# Altium footprint library Diode-Bridge.PcbLib: 57 footprints (part 1 of 4)
Each footprint in its own frame and in the unit in brackets; x right, y up, seen from the top. Pads: shape width x height; smd on the part's side, far side on the other; paste and mask are expansions set on the pad; w line width, h text height; cw(c..) or ccw(c..) is an arc to the next point about the centre after c.
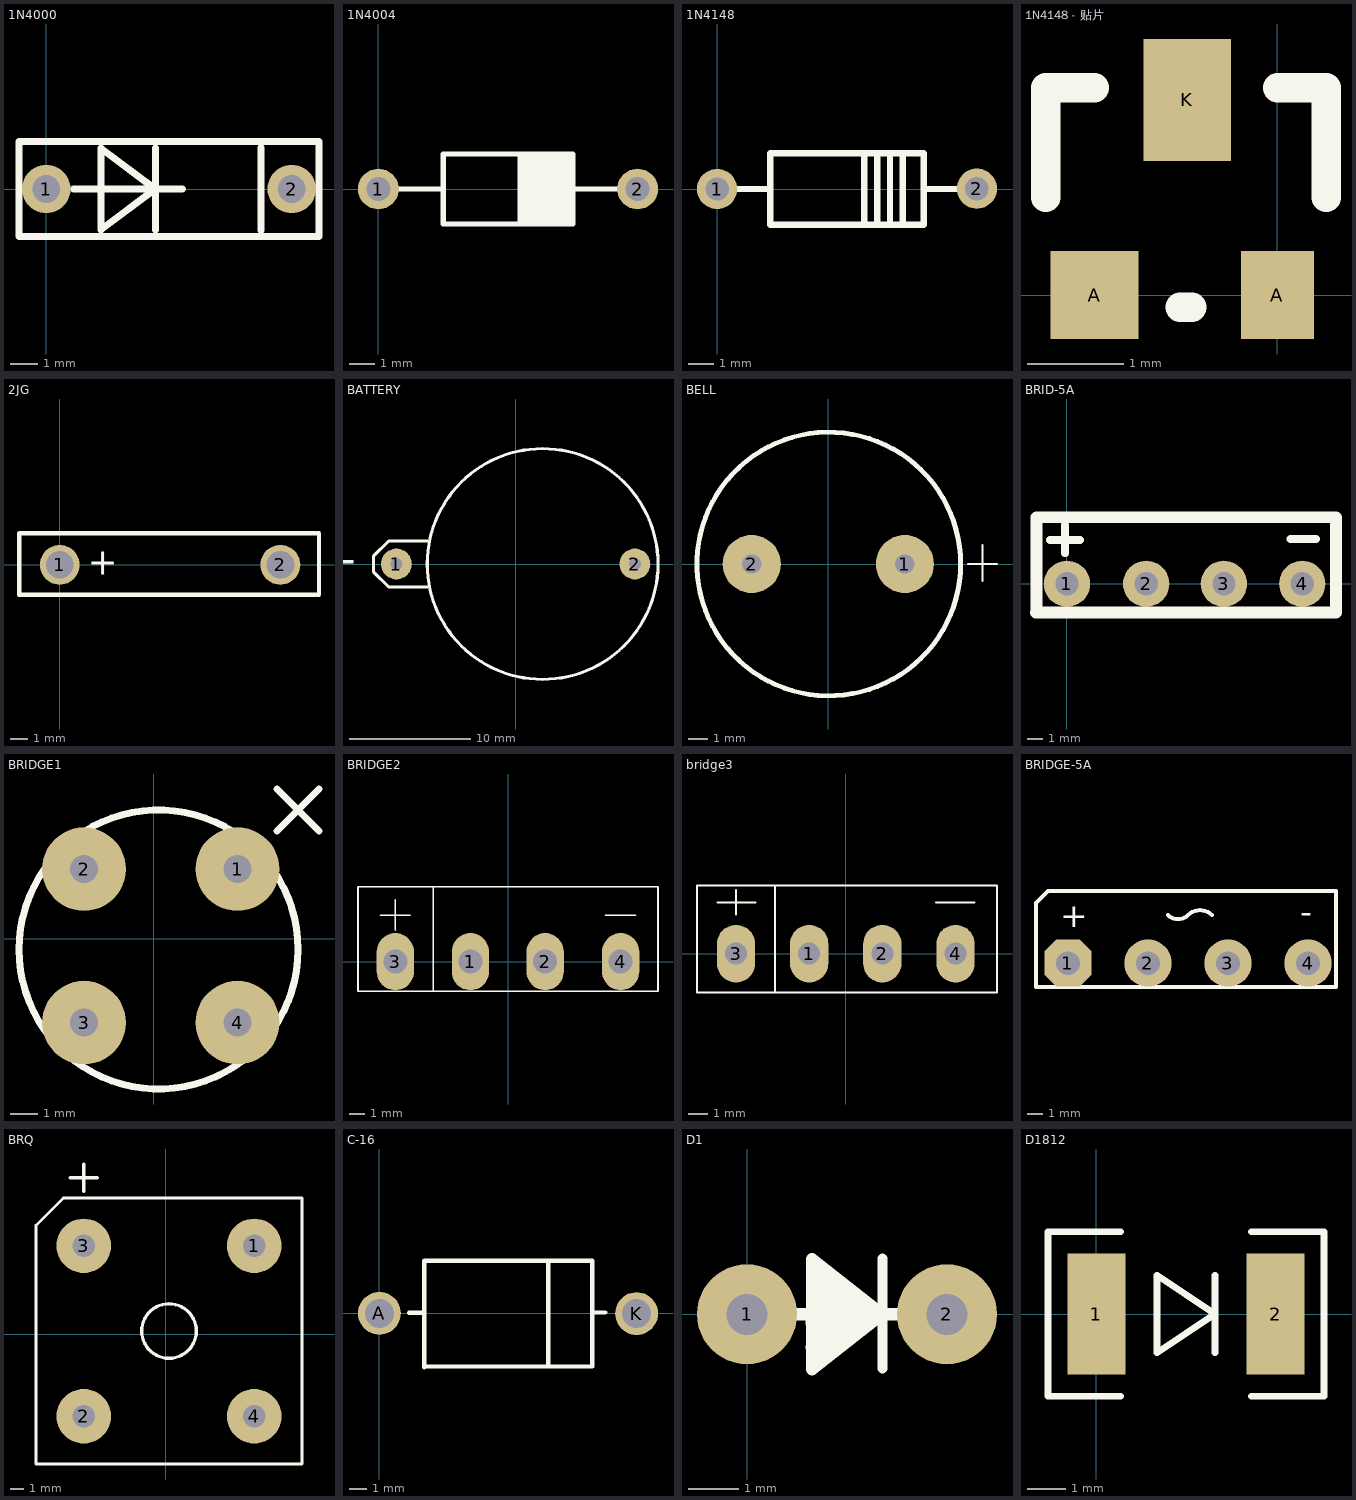
[diagram p0: the footprints below, top view; thin cyan lines are the x and y axes]

## 1N4000 [mil]
pads (2):
  round 70 hole 40: 1(0,0) 2(354.33,0)
Top Overlay:
  lines w10: 39.37,0 196.85,0 ; 157.48,-59.05 157.48,59.05 ; 310,-60 310,60 ; -39.37,-68.74 393.7,-68.74 393.7,68.74 -39.37,68.74 -39.37,-68.74 ; 78.74,-59.05 78.74,59.05 157.48,0 78.74,-59.05

## 1N4004 [mil]
pads (2):
  round 62 hole 36: 1(0,0) 2(393.7,0)
Top Overlay:
  lines w5.91: 214.57,-53.15 214.57,53.15 ; 218.5,-53.15 218.5,53.15 ; 222.44,-53.15 222.44,53.15 ; 226.38,-53.15 226.38,53.15 ; 230.31,-53.15 230.31,53.15 ; 234.25,-53.15 234.25,53.15 ; 238.19,-53.15 238.19,53.15 ; 242.13,-53.15 242.13,53.15 ; 246.06,-53.15 246.06,53.15 ; 250,-53.15 250,53.15 ; 253.94,-53.15 253.94,53.15 ; 257.87,-53.15 257.87,53.15 ; 261.81,-53.15 261.81,53.15 ; 265.75,-53.15 265.75,53.15 ; 269.69,-53.15 269.69,53.15 ; 273.62,-53.15 273.62,53.15 ; 277.56,-53.15 277.56,53.15 ; 281.5,-53.15 281.5,53.15 ; 285.43,-53.15 285.43,53.15 ; 289.37,-53.15 289.37,53.15 ; 293.31,-53.15 293.31,53.15
  lines w7.87: 23.62,0 98.42,0 ; 295.28,0 370.08,0 ; 98.42,-53.15 98.42,53.15 295.28,53.15 295.28,-53.15 98.42,-53.15

## 1N4148 [mil]
pads (2):
  round 62 hole 36: 1(0,0) 2(400,0.5)
Top Overlay:
  lines w9.84: 3.15,0 81.89,0 ; 226.77,-55.12 226.77,55.12 ; 246.46,-55.12 246.46,55.12 ; 266.14,-55.12 266.14,55.12 ; 285.83,-55.12 285.83,55.12 ; 396.85,0 318.11,0 ; 318.11,0 318.11,-55.12 81.89,-55.12 81.89,55.12 318.11,55.12 318.11,0

## 1N4148 - 贴片 [mil]
pads (3):
  rect 36x36 smd: A(-75,0)
  rect 30x36 smd: A(0,0)
  rect 36x50 smd: K(-37,80)
Top Overlay:
  lines w12: -95,40 -95,85 -75,85 ; -40,-5 -35,-5 ; 0,85 20,85 20,40

## 2JG [mm]
pads (2):
  round 2.3 hole 1.6: 1(0,0) 2(12.722,0)
Top Overlay:
  lines w0.254: 0,-0.254 0,0.254 ; 12.7,-0.254 12.7,0.254 ; -2.349,-1.725 14.946,-1.725 14.946,1.825 -2.324,1.825 -2.324,-1.7 -2.349,-1.725
  text "+" at 1.625,-0.575 h1.52

## BATTERY [mil]
pads (2):
  round 100 hole 40: 1(-387.5,0) 2(387.5,0)
Top Overlay:
  circle w10: c87.5,0 r375
  lines w10: -287.5,-75 -412.5,-75 -462.5,-25 -462.5,25 -412.5,75 -287.5,75
  text "+" at -512.5,50 h100

## BELL [mil]
pads (2):
  round 120 hole 40: 1(158,0) 2(-158,0)
Top Overlay:
  circle w10: c1.11,0 r271.89
  lines w4: 288,0 313,0 ; 302,0 348,0 ; 318,-35 318,39

## BRID-5A [mm]
pads (4):
  round 3 hole 1.5: 1(0,0) 2(5.131,0) 3(10.16,0) 4(15.24,0)
Top Overlay:
  lines w0.508: -1.092,2.845 0.838,2.845 ; -0.127,1.981 -0.127,3.81 ; 0.127,4.42 0.381,4.42 ; 14.478,2.896 16.129,2.896
  lines w0.762: -2.007,-1.854 -1.981,-1.854 -1.981,4.318 17.399,4.318 17.424,4.293 17.424,-1.854 -2.007,-1.854

## BRIDGE1 [mil]
pads (4):
  round 120 hole 40: 1(120,100) 2(-100,100) 3(-100,-120) 4(120,-120)
Top Overlay:
  circle w10: c6.8,-15.2 r200
  lines w10: 176.8,154.8 236.8,214.8 ; 176.8,214.8 236.8,154.8

## BRIDGE2 [mil]
pads (4):
  oval 98x150 hole 63: 1(-98.5,0) 2(97.5,0) 3(-295.5,0) 4(295.5,0)
Top Overlay:
  lines w4: -334.5,122 -256.5,122 ; -295.5,83 -295.5,162 ; -196.5,-78 -196.5,197 ; 255.5,122 334.5,122 ; -393.5,-78 -393.5,197 393.5,197 393.5,-78 -393.5,-78

## bridge3 [mm]
pads (4):
  oval 2x3 hole 1.143: 1(-1.905,0) 2(1.905,0) 3(-5.715,0) 4(5.715,0)
Top Overlay:
  lines w0.102: -6.68,2.667 -4.699,2.667 ; -5.715,2.032 -5.715,3.302 ; -3.683,-2.032 -3.683,3.556 ; 4.699,2.667 6.706,2.667 ; -7.747,-2.032 7.874,-2.032 7.874,3.556 -7.747,3.556 -7.747,-2.032

## BRIDGE-5A [mm]
pads (4):
  oct 3x3 hole 1.5: 1(-26.416,187.198)
  round 3 hole 1.5: 2(-21.336,187.198) 3(-16.256,187.198) 4(-11.176,187.198)
Top Overlay:
  lines w0.254: -20.066,190.246 ccw(c-19.431,190.881) -18.796,190.246 cw(c-18.034,189.484) -17.272,190.246 ; -28.448,185.674 -28.448,189.992 -28.448,191.008 -27.686,191.77 -26.67,191.77 -9.398,191.77 -9.398,185.674 -28.448,185.674
  text "-" at -11.684,189.738 h1.52
  text "+" at -26.924,189.484 h1.52

## BRQ [mil]
pads (4):
  round 160 hole 65: 1(260,260) 2(-240,-240) 3(-240,260) 4(260,-240)
Top Overlay:
  circle w10: c10.04,10.04 r80
  lines w8: -380,-380 400,-380 400,400 -300,400 -380,320 -380,-380
  lines w10: -280,460 -200,460 ; -240,420 -240,500

## C-16 [mm]
pads (2):
  round 2.5 hole 1.7: A(0,0) K(15,-0.013)
Top Overlay:
  lines w0.254: 1.727,0.025 2.616,0.025 ; 2.616,-3.15 2.616,3.073 12.421,3.073 12.421,-3.099 2.667,-3.099 ; 9.855,-3.099 9.855,3.073 ; 12.421,0.051 13.183,0.051

## D1 [mm]
pads (2):
  round 2 hole 0.82: 1(0,0) 2(4,0)
Top Overlay:
  lines w0.2: 2.709,-1.09 2.709,1.11
  lines w0.25: 0.4,0 1.3,0 ; 3.61,0 2.7,0 ; 2.7,0 1.3,1.1 1.3,-1.1 2.7,0
  lines w0.254: 1.638,0.305 1.511,0.305 1.612,0.203 2.273,0.203 2.298,0.229 2.12,0.229 2.095,0.203 1.511,0.787 1.511,0.508 ; 1.866,0.203 1.562,0.508 1.511,0.508 ; 2.425,0 1.3,0 1.3,-0.178 1.351,-0.229 2.374,-0.229 2.247,-0.229 1.993,-0.483 1.478,-0.483 ; 1.478,-0.483 1.3,-0.66 1.714,-0.66 1.511,-0.864 1.325,-0.864 1.478,-0.711 1.478,-0.483 ; 1.478,-0.483 1.511,-0.45 1.511,0.508

## D1812 [mil]
pads (2):
  rect 60x125 smd: 1(0,0) 2(185,0)
Top Overlay:
  lines w7: 25,-85 -50,-85 -50,85 25,85 ; 122.5,-40 122.5,40 ; 160,-85 235,-85 235,85 160,85 ; 62.5,-40 62.5,40 122.5,0 62.5,-40